# Altium schematic symbol library TPS65217.Schlib: 1 symbol
Pins are listed as number, name and electrical type; pins without a type are passive.

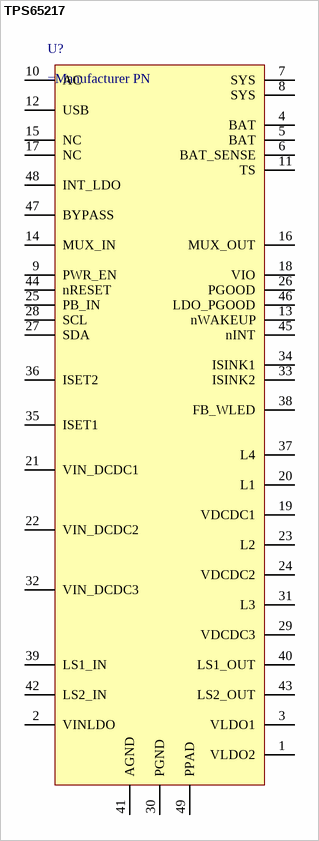
[diagram p0: symbol TPS65217]

## TPS65217
designator U?
PMIC for AM335x Sitara
pins: 1 VLDO2, 2 VINLDO, 3 VLDO1, 4 BAT, 5 BAT, 6 BAT_SENSE, 7 SYS, 8 SYS, 9 PWR_EN, 10 AC, 11 TS, 12 USB, 13 nWAKEUP, 14 MUX_IN, 15 NC, 16 MUX_OUT, 17 NC, 18 VIO, 19 VDCDC1, 20 L1, 21 VIN_DCDC1, 22 VIN_DCDC2, 23 L2, 24 VDCDC2, 25 PB_IN, 26 PGOOD, 27 SDA, 28 SCL, 29 VDCDC3, 30 PGND, 31 L3, 32 VIN_DCDC3, 33 ISINK2, 34 ISINK1, 35 ISET1, 36 ISET2, 37 L4, 38 FB_WLED, 39 LS1_IN, 40 LS1_OUT, 41 AGND, 42 LS2_IN, 43 LS2_OUT, 44 nRESET, 45 nINT, 46 LDO_PGOOD, 47 BYPASS, 48 INT_LDO, 49 PPAD